# Altium schematic symbol library 排针.SchLib: 37 symbols
Pins are listed as number, name and electrical type; pins without a type are passive.

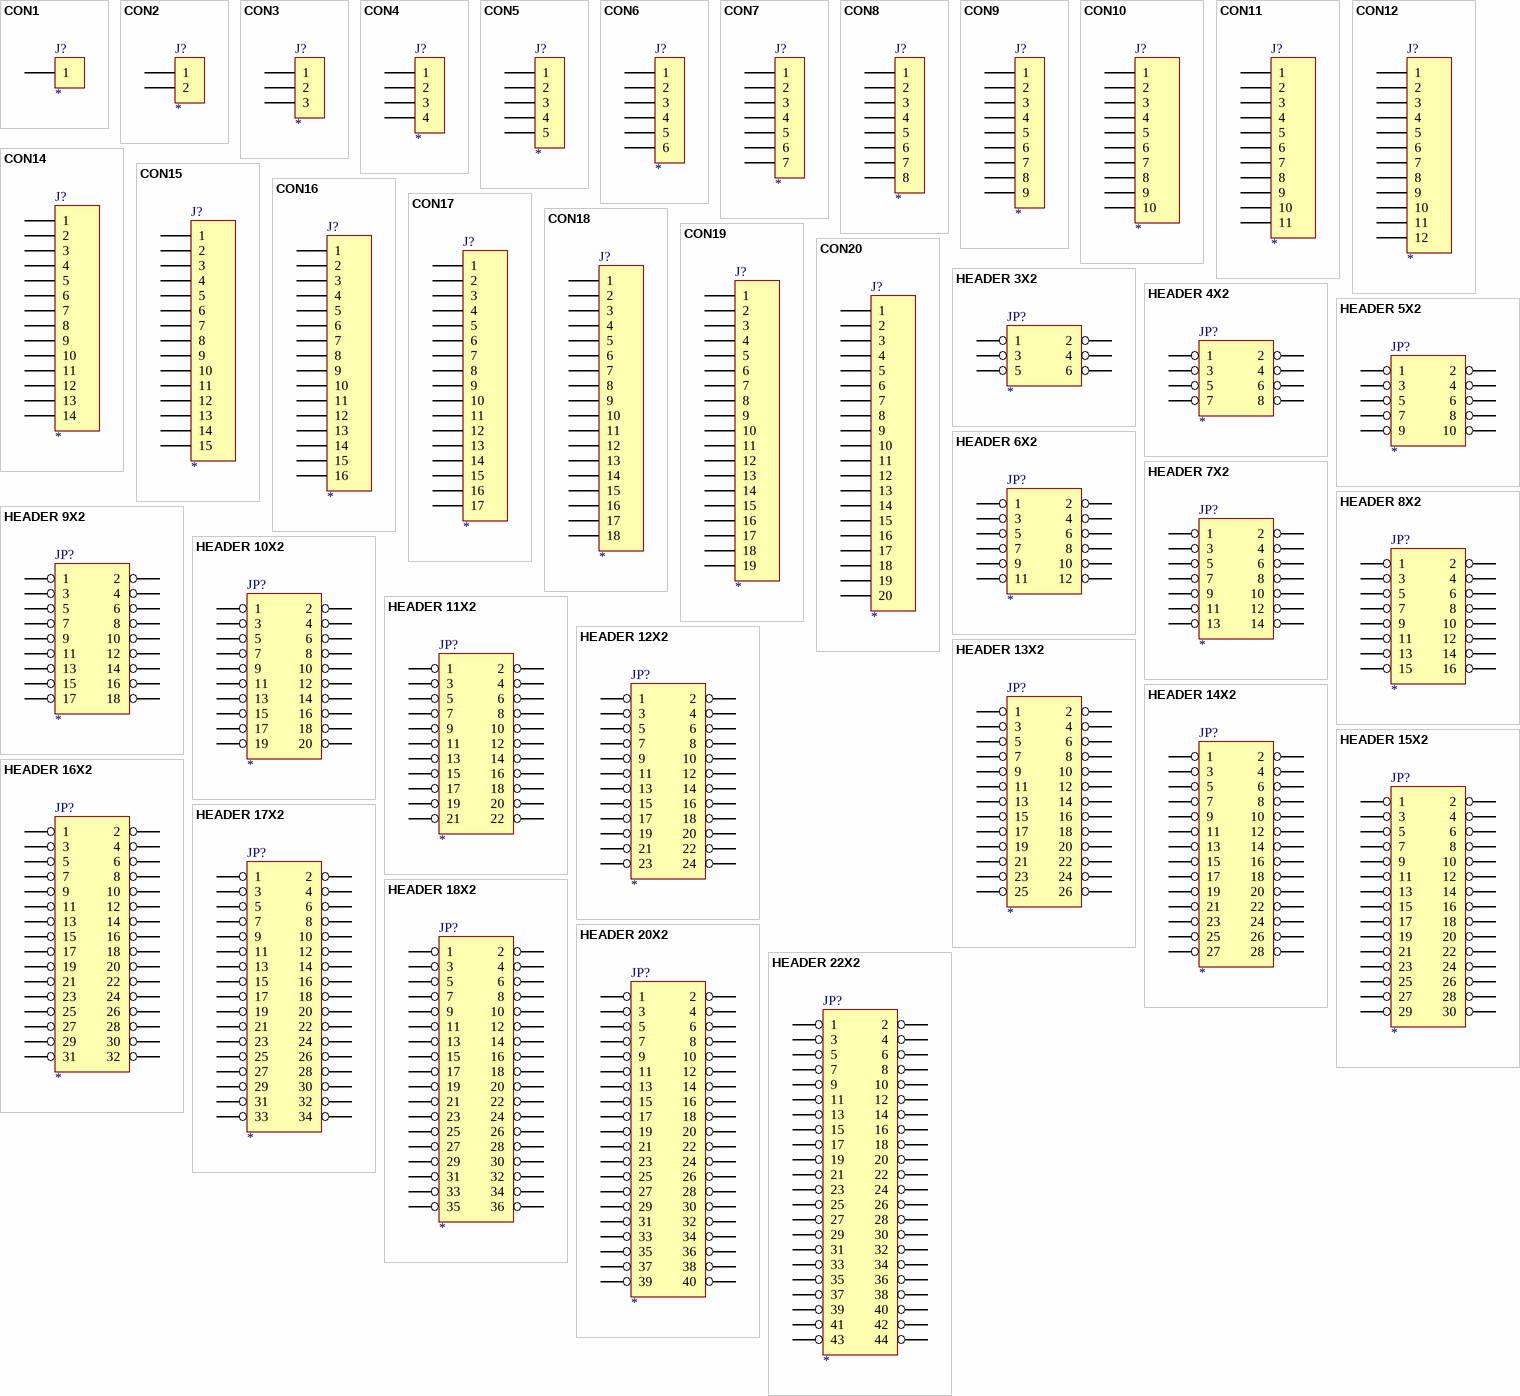
[diagram p0: symbols CON1 to HEADER 22X2]

## CON1
designator J?
Connector
footprint SIP-1
pins: 1

## CON2
designator J?
Connector
footprint sip-2
footprint 2P-200
footprint SIP-2W (7mm×5mm，白色底座)
pins: 1, 2

## CON3
designator J?
Connector
footprint sip-3
footprint SIP-3W (10mm×5mm, 白色底座)
pins: 1, 2, 3

## CON4
designator J?
Connector
footprint sip-4
pins: 1, 2, 3, 4

## CON5
designator J?
Connector
footprint sip-5
pins: 1, 2, 3, 4, 5

## CON6
designator J?
Connector
footprint sip-6
pins: 1, 2, 3, 4, 5, 6

## CON7
designator J?
Connector
footprint sip-7
pins: 1, 2, 3, 4, 5, 6, 7

## CON8
designator J?
Connector
footprint sip-8
pins: 1, 2, 3, 4, 5, 6, 7, 8

## CON9
designator J?
Connector
footprint sip-9
pins: 1, 2, 3, 4, 5, 6, 7, 8, 9

## CON10
designator J?
Connector
footprint sip-10
pins: 1, 2, 3, 4, 5, 6, 7, 8, 9, 10

## CON11
designator J?
footprint SIP-11
pins: 1, 2, 3, 4, 5, 6, 7, 8, 9, 10, 11

## CON12
designator J?
Connector
footprint sip-12
pins: 1, 2, 3, 4, 5, 6, 7, 8, 9, 10, 11, 12

## CON14
designator J?
Connector
footprint sip-14
pins: 1, 2, 3, 4, 5, 6, 7, 8, 9, 10, 11, 12, 13, 14

## CON15
designator J?
Connector
footprint sip-15
pins: 1, 2, 3, 4, 5, 6, 7, 8, 9, 10, 11, 12, 13, 14, 15

## CON16
designator J?
Connector
footprint sip-16
pins: 1, 2, 3, 4, 5, 6, 7, 8, 9, 10, 11, 12, 13, 14, 15, 16

## CON17
designator J?
Connector
footprint sip-17
pins: 1, 2, 3, 4, 5, 6, 7, 8, 9, 10, 11, 12, 13, 14, 15, 16, 17

## CON18
designator J?
Connector
footprint sip-18
pins: 1, 2, 3, 4, 5, 6, 7, 8, 9, 10, 11, 12, 13, 14, 15, 16, 17, 18

## CON19
designator J?
Connector
footprint sip-19
pins: 1, 2, 3, 4, 5, 6, 7, 8, 9, 10, 11, 12, 13, 14, 15, 16, 17, 18, 19

## CON20
designator J?
Connector
footprint sip-20
pins: 1, 2, 3, 4, 5, 6, 7, 8, 9, 10, 11, 12, 13, 14, 15, 16, 17, 18, 19, 20

## HEADER 3X2
designator JP?
footprint IDC6
footprint IDC-6
pins: 1, 2, 3, 4, 5, 6

## HEADER 4X2
designator JP?
footprint IDC8
footprint IDC-8
pins: 1, 2, 3, 4, 5, 6, 7, 8

## HEADER 5X2
designator JP?
footprint IDC10
footprint IDC-10
pins: 1, 2, 3, 4, 5, 6, 7, 8, 9, 10

## HEADER 6X2
designator JP?
footprint IDC12
footprint IDC-12
pins: 1, 2, 3, 4, 5, 6, 7, 8, 9, 10, 11, 12

## HEADER 7X2
designator JP?
footprint IDC-14
footprint IDC14
pins: 1, 2, 3, 4, 5, 6, 7, 8, 9, 10, 11, 12, 13, 14

## HEADER 8X2
designator JP?
footprint IDC16
footprint IDC-16
pins: 1, 2, 3, 4, 5, 6, 7, 8, 9, 10, 11, 12, 13, 14, 15, 16

## HEADER 9X2
designator JP?
footprint IDC18
footprint IDC-18
pins: 1, 2, 3, 4, 5, 6, 7, 8, 9, 10, 11, 12, 13, 14, 15, 16, 17, 18

## HEADER 10X2
designator JP?
footprint IDC20
footprint IDC-20
pins: 1, 2, 3, 4, 5, 6, 7, 8, 9, 10, 11, 12, 13, 14, 15, 16, 17, 18, 19, 20

## HEADER 11X2
designator JP?
footprint IDC22
footprint IDC-22
pins: 1, 2, 3, 4, 5, 6, 7, 8, 9, 10, 11, 12, 13, 14, 15, 16, 17, 18, 19, 20, 21, 22

## HEADER 12X2
designator JP?
footprint IDC24
footprint IDC-24
pins: 1, 2, 3, 4, 5, 6, 7, 8, 9, 10, 11, 12, 13, 14, 15, 16, 17, 18, 19, 20, 21, 22, 23, 24

## HEADER 13X2
designator JP?
footprint IDC26
footprint IDC-26
pins: 1, 2, 3, 4, 5, 6, 7, 8, 9, 10, 11, 12, 13, 14, 15, 16, 17, 18, 19, 20, 21, 22, 23, 24, 25, 26

## HEADER 14X2
designator JP?
footprint IDC28
footprint IDC-28
pins: 1, 2, 3, 4, 5, 6, 7, 8, 9, 10, 11, 12, 13, 14, 15, 16, 17, 18, 19, 20, 21, 22, 23, 24, 25, 26, 27, 28

## HEADER 15X2
designator JP?
footprint IDC30
footprint IDC-30
pins: 1, 2, 3, 4, 5, 6, 7, 8, 9, 10, 11, 12, 13, 14, 15, 16, 17, 18, 19, 20, 21, 22, 23, 24, 25, 26, 27, 28, 29, 30

## HEADER 16X2
designator JP?
footprint IDC32
footprint IDC-32
pins: 1, 2, 3, 4, 5, 6, 7, 8, 9, 10, 11, 12, 13, 14, 15, 16, 17, 18, 19, 20, 21, 22, 23, 24, 25, 26, 27, 28, 29, 30, 31, 32

## HEADER 17X2
designator JP?
footprint IDC34
footprint IDC-34
pins: 1, 2, 3, 4, 5, 6, 7, 8, 9, 10, 11, 12, 13, 14, 15, 16, 17, 18, 19, 20, 21, 22, 23, 24, 25, 26, 27, 28, 29, 30, 31, 32, 33, 34

## HEADER 18X2
designator JP?
footprint IDC36
footprint IDC-36
pins: 1, 2, 3, 4, 5, 6, 7, 8, 9, 10, 11, 12, 13, 14, 15, 16, 17, 18, 19, 20, 21, 22, 23, 24, 25, 26, 27, 28, 29, 30, 31, 32, 33, 34, 35, 36

## HEADER 20X2
designator JP?
footprint IDC40
footprint IDC-40
pins: 1, 2, 3, 4, 5, 6, 7, 8, 9, 10, 11, 12, 13, 14, 15, 16, 17, 18, 19, 20, 21, 22, 23, 24, 25, 26, 27, 28, 29, 30, 31, 32, 33, 34, 35, 36, 37, 38, 39, 40

## HEADER 22X2
designator JP?
footprint IDC44
footprint IDC-44
pins: 1, 2, 3, 4, 5, 6, 7, 8, 9, 10, 11, 12, 13, 14, 15, 16, 17, 18, 19, 20, 21, 22, 23, 24, 25, 26, 27, 28, 29, 30, 31, 32, 33, 34, 35, 36, 37, 38, 39, 40, 41, 42, 43, 44